# EAGLE library part HEADER_1X9 (library 1)
Header 9P
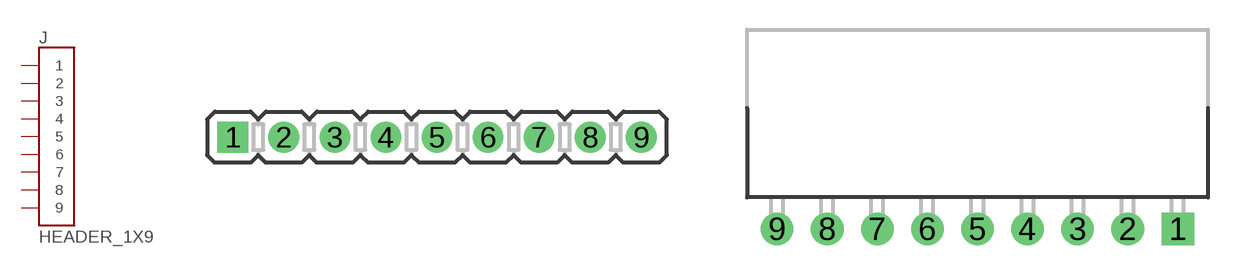
[diagram p21: symbol with the pads of 1X9_TH; footprints 1X9_TH, 1X_TH_RA_SOCKET]

Designator prefix J

## HEADER_1X9  [1X9_TH]
1  1
2  2
3  3
4  4
5  5
6  6
7  7
8  8
9  9

## HEADER_1X9RA  [1X_TH_RA_SOCKET]
Pads as for 1X9_TH

## Footprint 1X9_TH (pad centres in mm)
Header 9P, 0.1"
drill 0.914 pad 1.524 square: 1 -10.16,0
drill 0.914 pad 1.524: 2 -7.62,0; 3 -5.08,0; 4 -2.54,0; 5 0,0; 6 2.54,0; 7 5.08,0; 8 7.62,0; 9 10.16,0

## Footprint 1X_TH_RA_SOCKET (pad centres in mm)
PPPC091LGBN-RC CONN FEMALE 9POS .100" R/A GOLD DRAWING <http://www.sullinscorp.com/drawings/78_P(N)PxCxx1LGBN-RC,_10493-F.pdf>
drill 1.016 pad 1.651 square: 1 10.16,0
drill 1.016 pad 1.651: 2 7.62,0; 3 5.08,0; 4 2.54,0; 5 0,0; 6 -2.54,0; 7 -5.08,0; 8 -7.62,0; 9 -10.16,0